# Altium schematic symbol library motherboard.SCHLIB: 90 symbols
Pins are listed as number, name and electrical type; pins without a type are passive.

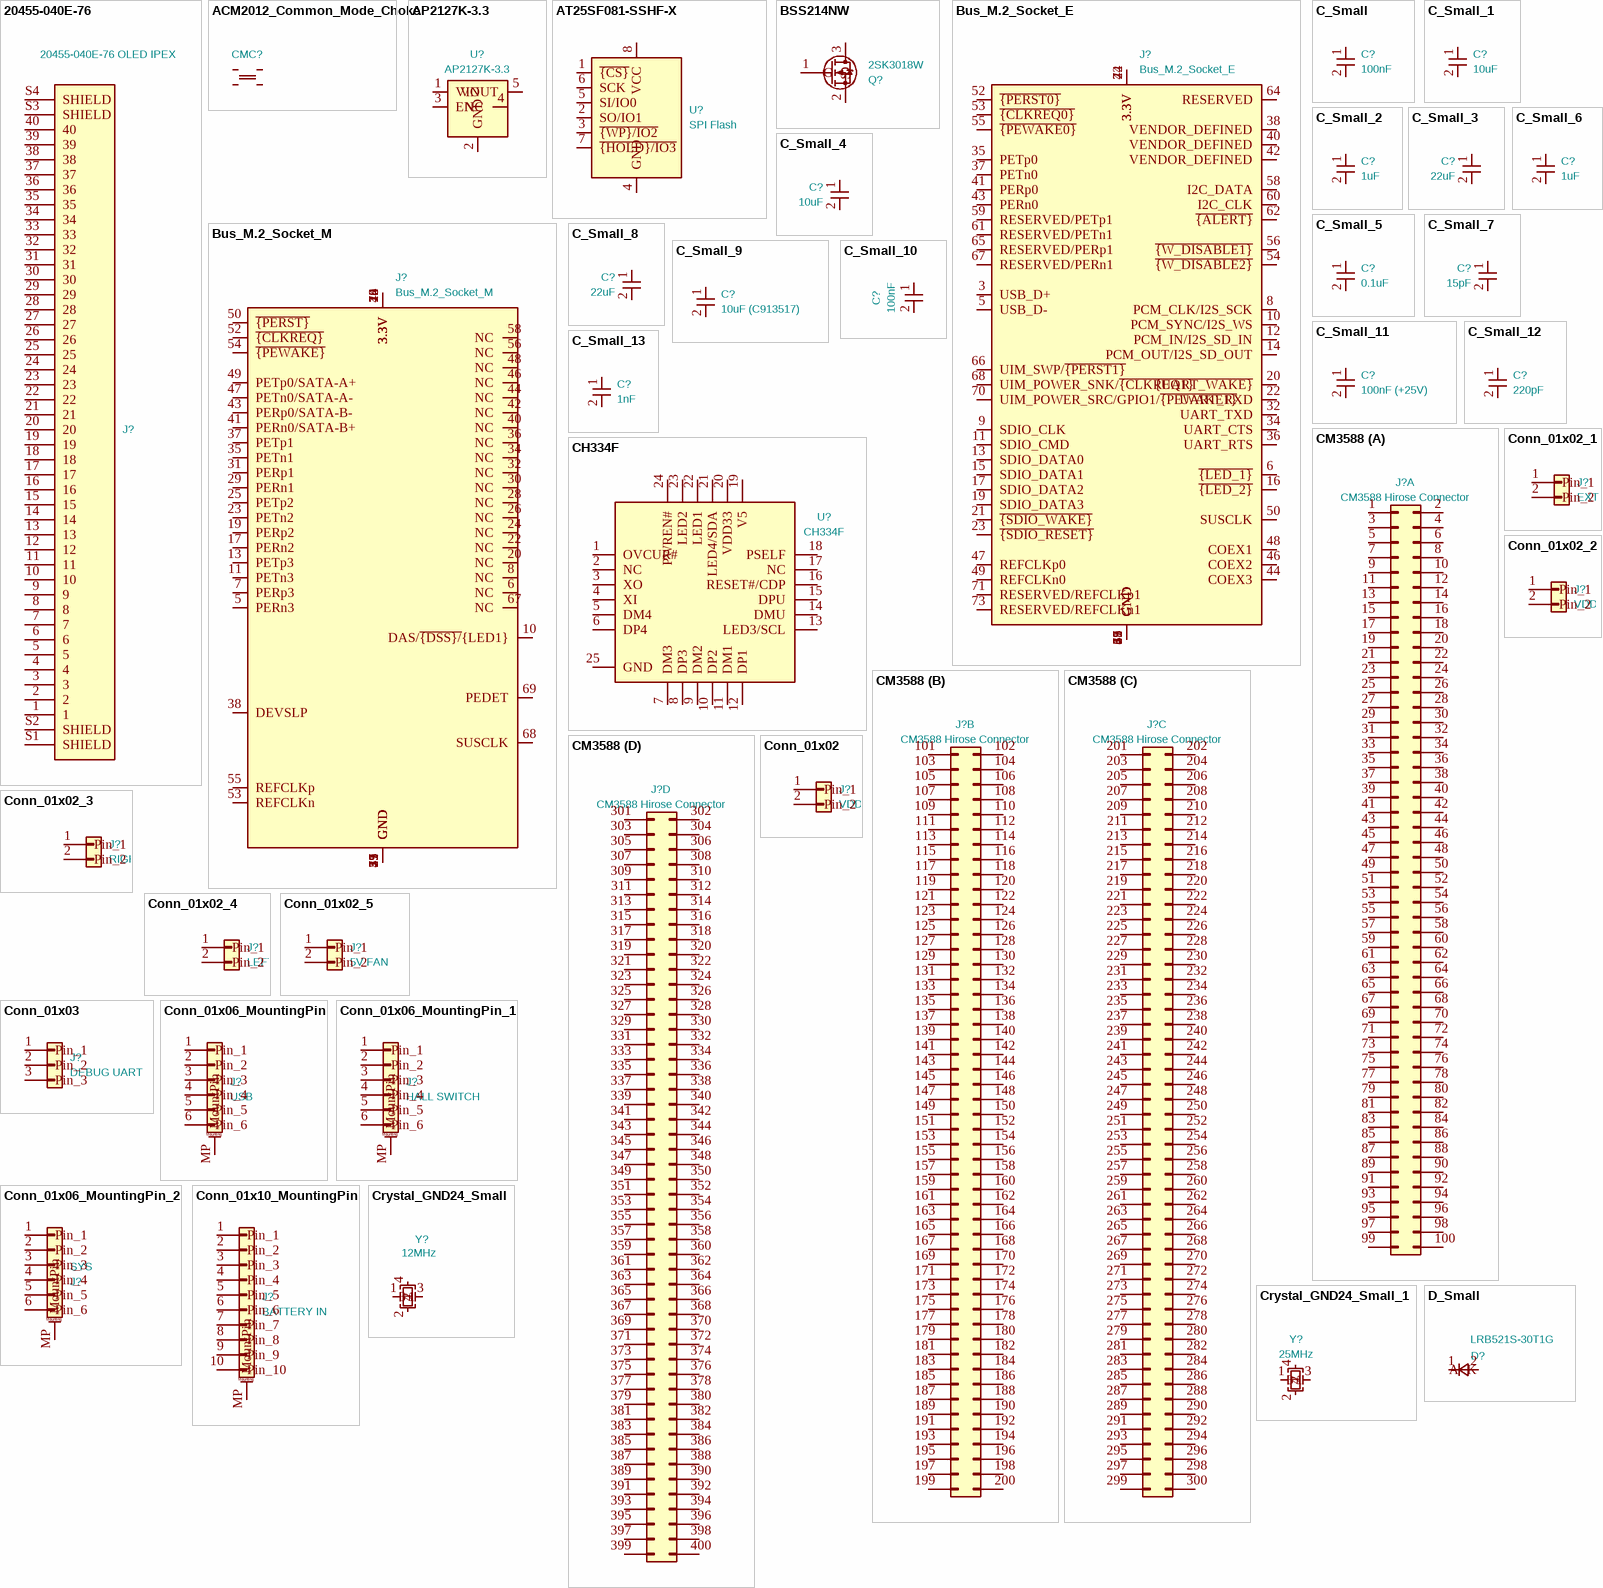
[diagram p0: symbols 20455-040E-76 to D_Small]

## 20455-040E-76
designator J?, comment 20455-040E-76 OLED IPEX
MF: I-PEX; Description_1: \n40 POS Right Angle SMD 0.5 mm pitch, Horizontal mating type Micro-coaxial and FPC connector with mechanical lock (VESA standard connector) CABLINE-VS Receptacle\n; Package: None; Price: None; Check_prices: https://www.snapeda.com/parts/20455-040E-76/I-PEX/view-part/?ref=eda; STANDARD: Manufacturer Recommendations; SnapEDA_Link: https://www.snapeda.com/parts/20455-040E-76/I-PEX/view-part/?ref=snap; MP: 20455-040E-76; Availability: In Stock; MANUFACTURER: I-PEX; Footprint: eDP_Connector:IPEX_20455-040E-76; Value: 20455-040E-76 OLED IPEX
footprint IPEX_20455-040E-76
pins: 1, 2, 3, 4, 5, 6, 7, 8, 9, 10, 11, 12, 13, 14, 15, 16, 17, 18, 19, 20, 21, 22, 23, 24, 25, 26, 27, 28, 29, 30, 31, 32, 33, 34, 35, 36, 37, 38, 39, 40, S1 SHIELD, S2 SHIELD, S3 SHIELD, S4 SHIELD

## ACM2012_Common_Mode_Choke
designator CMC?, comment ACM2012  (value not drawn)
Value: ACM2012; Footprint: ACM2012:FIL_ACM2012-900-2P-T001
footprint FIL_ACM2012-900-2P-T001
pins: 1, 2, 3, 4

## AP2127K-3.3
designator U?
Footprint: Package_TO_SOT_SMD:SOT-23-5; Value: AP2127K-3.3
footprint SOT-23-5
pins: 1 VIN, 2 GND, 3 EN, 4 NC, 5 VOUT

## AT25SF081-SSHF-X
designator U?, comment SPI Flash
Footprint: Package_SON:WSON-8-1EP_6x5mm_P1.27mm_EP3.4x4.3mm; Value: SPI Flash
footprint WSON-8-1EP_6x5mm_P1.27mm_EP3.4x4.3mm
pins: 1 ~{{CS}}, 2 SO/IO1, 3 ~{{WP}/IO2}, 4 GND, 5 SI/IO0, 6 SCK, 7 ~{{HOLD}/IO3}, 8 VCC

## BSS214NW
designator Q?, comment 2SK3018W
Footprint: Package_TO_SOT_SMD:SOT-323_SC-70; Value: 2SK3018W
footprint SOT-323_SC-70
pins: 1 G, 2 S, 3 D

## Bus_M.2_Socket_E
designator J?
Footprint: WIRELESS_E_KEY:CONN-SMD_APCI0147-P001A; Value: Bus_M.2_Socket_E
footprint CONN-SMD_APCI0147-P001A
pins: 1 GND, 2 3.3V, 3 USB_D+, 4 3.3V, 5 USB_D-, 6 ~{{LED_1}}, 7 GND, 8 PCM_CLK/I2S_SCK, 9 SDIO_CLK, 10 PCM_SYNC/I2S_WS, 11 SDIO_CMD, 12 PCM_IN/I2S_SD_IN, 13 SDIO_DATA0, 14 PCM_OUT/I2S_SD_OUT, 15 SDIO_DATA1, 16 ~{{LED_2}}, 17 SDIO_DATA2, 18 GND, 19 SDIO_DATA3, 20 ~{{UART_WAKE}}, 21 ~{{SDIO_WAKE}}, 22 UART_RXD, 23 ~{{SDIO_RESET}}, 32 UART_TXD, 33 GND, 34 UART_CTS, 35 PETp0, 36 UART_RTS, 37 PETn0, 38 VENDOR_DEFINED, 39 GND, 40 VENDOR_DEFINED, 41 PERp0, 42 VENDOR_DEFINED, 43 PERn0, 44 COEX3, 45 GND, 46 COEX2, 47 REFCLKp0, 48 COEX1, 49 REFCLKn0, 50 SUSCLK, 51 GND, 52 ~{{PERST0}}, 53 ~{{CLKREQ0}}, 54 ~{{W_DISABLE2}}, 55 ~{{PEWAKE0}}, 56 ~{{W_DISABLE1}}, 57 GND, 58 I2C_DATA, 59 RESERVED/PETp1, 60 I2C_CLK, 61 RESERVED/PETn1, 62 ~{{ALERT}}, 63 GND, 64 RESERVED, 65 RESERVED/PERp1, 66 UIM_SWP/~{{PERST1}}, 67 RESERVED/PERn1, 68 UIM_POWER_SNK/~{{CLKREQ1}}, 69 GND, 70 UIM_POWER_SRC/GPIO1/~{{PEWAKE1}}, 71 RESERVED/REFCLKp1, 72 3.3V, 73 RESERVED/REFCLKn1, 74 3.3V, 75 GND

## Bus_M.2_Socket_M
designator J?
Footprint: NVME_M_KEY:CONN-SMD_AS0BC21-S30BM-7H; Value: Bus_M.2_Socket_M
footprint CONN-SMD_AS0BC21-S30BM-7H
pins: 1 GND, 2 3.3V, 3 GND, 4 3.3V, 5 PERn3, 6 NC, 7 PERp3, 8 NC, 9 GND, 10 DAS/~{{DSS}/}{LED1}, 11 PETn3, 12 3.3V, 13 PETp3, 14 3.3V, 15 GND, 16 3.3V, 17 PERn2, 18 3.3V, 19 PERp2, 20 NC, 21 GND, 22 NC, 23 PETn2, 24 NC, 25 PETp2, 26 NC, 27 GND, 28 NC, 29 PERn1, 30 NC, 31 PERp1, 32 NC, 33 GND, 34 NC, 35 PETn1, 36 NC, 37 PETp1, 38 DEVSLP, 39 GND, 40 NC, 41 PERn0/SATA-B+, 42 NC, 43 PERp0/SATA-B-, 44 NC, 45 GND, 46 NC, 47 PETn0/SATA-A-, 48 NC, 49 PETp0/SATA-A+, 50 ~{{PERST}}, 51 GND, 52 ~{{CLKREQ}}, 53 REFCLKn, 54 ~{{PEWAKE}}, 55 REFCLKp, 56 NC, 57 GND, 58 NC, 67 NC, 68 SUSCLK, 69 PEDET, 70 3.3V, 71 GND, 72 3.3V, 73 GND, 74 3.3V, 75 GND

## C_Small
designator C?, comment 100nF
LCSC: C307331; Footprint: Capacitor_SMD:C_0402_1005Metric; Value: 100nF
footprint C_0402_1005Metric
pins: 1, 2

## C_Small_1
designator C?, comment 10uF
LCSC: C913517; Footprint: Capacitor_SMD:C_0603_1608Metric; Value: 10uF
footprint C_0603_1608Metric
pins: 1, 2

## C_Small_2
designator C?, comment 1uF
LCSC: C52923; Footprint: Capacitor_SMD:C_0402_1005Metric; Value: 1uF
footprint C_0402_1005Metric
pins: 1, 2

## C_Small_3
designator C?, comment 22uF
LCSC: C162690; Footprint: Capacitor_SMD:C_0603_1608Metric; Value: 22uF
footprint C_0603_1608Metric
pins: 1, 2

## C_Small_4
designator C?, comment 10uF
Footprint: Capacitor_SMD:C_0603_1608Metric; Value: 10uF
footprint C_0603_1608Metric
pins: 1, 2

## C_Small_5
designator C?, comment 0.1uF
Footprint: Capacitor_SMD:C_0402_1005Metric; Value: 0.1uF
footprint C_0402_1005Metric
pins: 1, 2

## C_Small_6
designator C?, comment 1uF
Footprint: Capacitor_SMD:C_0402_1005Metric; Value: 1uF
footprint C_0402_1005Metric
pins: 1, 2

## C_Small_7
designator C?, comment 15pF
Footprint: Capacitor_SMD:C_0402_1005Metric; Value: 15pF
footprint C_0402_1005Metric
pins: 1, 2

## C_Small_8
designator C?, comment 22uF
Footprint: Capacitor_SMD:C_0603_1608Metric; Value: 22uF
footprint C_0603_1608Metric
pins: 1, 2

## C_Small_9
designator C?, comment 10uF (C913517)
Value: 10uF (C913517); Footprint: Capacitor_SMD:C_0603_1608Metric
footprint C_0603_1608Metric
pins: 1, 2

## C_Small_10
designator C?, comment 100nF
Footprint: Capacitor_SMD:C_0402_1005Metric; Value: 100nF
footprint C_0402_1005Metric
pins: 1, 2

## C_Small_11
designator C?, comment 100nF (+25V)
Footprint: Capacitor_SMD:C_0402_1005Metric; Value: 100nF (+25V)
footprint C_0402_1005Metric
pins: 1, 2

## C_Small_12
designator C?, comment 220pF
Footprint: Capacitor_SMD:C_0402_1005Metric; Value: 220pF
footprint C_0402_1005Metric
pins: 1, 2

## C_Small_13
designator C?, comment 1nF
Value: 1nF; Footprint: Capacitor_SMD:C_0402_1005Metric
footprint C_0402_1005Metric
pins: 1, 2

## CH334F
designator U?
Footprint: Package_DFN_QFN:QFN-24-1EP_4x4mm_P0.5mm_EP2.6x2.6mm; Value: CH334F
footprint QFN-24-1EP_4x4mm_P0.5mm_EP2.6x2.6mm
pins: 1 OVCUR#, 2 NC, 3 XO, 4 XI, 5 DM4, 6 DP4, 7 DM3, 8 DP3, 9 DM2, 10 DP2, 11 DM1, 12 DP1, 13 LED3/SCL, 14 DMU, 15 DPU, 16 RESET#/CDP, 17 NC, 18 PSELF, 19 V5, 20 VDD33, 21 LED4/SDA, 22 LED1, 23 LED2, 24 PWREN#, 25 GND

## CM3588
designator J?, comment CM3588 Hirose Connector
LCSC: C597931; Footprint: Library:CM3588; Value: CM3588 Hirose Connector
footprint CM3588
part A pins: 1, 2, 3, 4, 5, 6, 7, 8, 9, 10, 11, 12, 13, 14, 15, 16, 17, 18, 19, 20, 21, 22, 23, 24, 25, 26, 27, 28, 29, 30, 31, 32, 33, 34, 35, 36, 37, 38, 39, 40, 41, 42, 43, 44, 45, 46, 47, 48, 49, 50, 51, 52, 53, 54, 55, 56, 57, 58, 59, 60, 61, 62, 63, 64, 65, 66, 67, 68, 69, 70, 71, 72, 73, 74, 75, 76, 77, 78, 79, 80, 81, 82, 83, 84, 85, 86, 87, 88, 89, 90, 91, 92, 93, 94, 95, 96, 97, 98, 99, 100
part B pins: 101, 102, 103, 104, 105, 106, 107, 108, 109, 110, 111, 112, 113, 114, 115, 116, 117, 118, 119, 120, 121, 122, 123, 124, 125, 126, 127, 128, 129, 130, 131, 132, 133, 134, 135, 136, 137, 138, 139, 140, 141, 142, 143, 144, 145, 146, 147, 148, 149, 150, 151, 152, 153, 154, 155, 156, 157, 158, 159, 160, 161, 162, 163, 164, 165, 166, 167, 168, 169, 170, 171, 172, 173, 174, 175, 176, 177, 178, 179, 180, 181, 182, 183, 184, 185, 186, 187, 188, 189, 190, 191, 192, 193, 194, 195, 196, 197, 198, 199, 200
part C pins: 201, 202, 203, 204, 205, 206, 207, 208, 209, 210, 211, 212, 213, 214, 215, 216, 217, 218, 219, 220, 221, 222, 223, 224, 225, 226, 227, 228, 229, 230, 231, 232, 233, 234, 235, 236, 237, 238, 239, 240, 241, 242, 243, 244, 245, 246, 247, 248, 249, 250, 251, 252, 253, 254, 255, 256, 257, 258, 259, 260, 261, 262, 263, 264, 265, 266, 267, 268, 269, 270, 271, 272, 273, 274, 275, 276, 277, 278, 279, 280, 281, 282, 283, 284, 285, 286, 287, 288, 289, 290, 291, 292, 293, 294, 295, 296, 297, 298, 299, 300
part D pins: 301, 302, 303, 304, 305, 306, 307, 308, 309, 310, 311, 312, 313, 314, 315, 316, 317, 318, 319, 320, 321, 322, 323, 324, 325, 326, 327, 328, 329, 330, 331, 332, 333, 334, 335, 336, 337, 338, 339, 340, 341, 342, 343, 344, 345, 346, 347, 348, 349, 350, 351, 352, 353, 354, 355, 356, 357, 358, 359, 360, 361, 362, 363, 364, 365, 366, 367, 368, 369, 370, 371, 372, 373, 374, 375, 376, 377, 378, 379, 380, 381, 382, 383, 384, 385, 386, 387, 388, 389, 390, 391, 392, 393, 394, 395, 396, 397, 398, 399, 400

## Conn_01x02
designator J?, comment VDD EXT 2
Footprint: Connector_PinHeader_2.54mm:PinHeader_1x02_P2.54mm_Vertical; Value: VDD EXT 2
footprint PinHeader_1x02_P2.54mm_Vertical
pins: 1 Pin_1, 2 Pin_2

## Conn_01x02_1
designator J?, comment EXT GPIO
Footprint: Connector_PinHeader_2.54mm:PinHeader_1x02_P2.54mm_Vertical; Value: EXT GPIO
footprint PinHeader_1x02_P2.54mm_Vertical
pins: 1 Pin_1, 2 Pin_2

## Conn_01x02_2
designator J?, comment VDD EXT
Footprint: Connector_PinHeader_2.54mm:PinHeader_1x02_P2.54mm_Vertical; Value: VDD EXT
footprint PinHeader_1x02_P2.54mm_Vertical
pins: 1 Pin_1, 2 Pin_2

## Conn_01x02_3
designator J?, comment RIGHT SPEAKERS
Footprint: Connector_PinHeader_2.54mm:PinHeader_1x02_P2.54mm_Vertical; Value: RIGHT SPEAKERS
footprint PinHeader_1x02_P2.54mm_Vertical
pins: 1 Pin_1, 2 Pin_2

## Conn_01x02_4
designator J?, comment LEFT SPEAKERS
Footprint: Connector_PinHeader_2.54mm:PinHeader_1x02_P2.54mm_Vertical; Value: LEFT SPEAKERS
footprint PinHeader_1x02_P2.54mm_Vertical
pins: 1 Pin_1, 2 Pin_2

## Conn_01x02_5
designator J?, comment 5V FAN
Footprint: Connector_PinHeader_2.54mm:PinHeader_1x02_P2.54mm_Vertical; Value: 5V FAN
footprint PinHeader_1x02_P2.54mm_Vertical
pins: 1 Pin_1, 2 Pin_2

## Conn_01x03
designator J?, comment DEBUG UART
Footprint: Connector_PinHeader_2.54mm:PinHeader_1x03_P2.54mm_Vertical; Value: DEBUG UART
footprint PinHeader_1x03_P2.54mm_Vertical
pins: 1 Pin_1, 2 Pin_2, 3 Pin_3

## Conn_01x06_MountingPin
designator J?, comment USB
Footprint: 6P_05mm_FPC:FPC-SMD_6P-P0.50_XUNPU_FPC-05F-6PH20; Value: USB
footprint FPC-SMD_6P-P0.50_XUNPU_FPC-05F-6PH20
pins: 1 Pin_1, 2 Pin_2, 3 Pin_3, 4 Pin_4, 5 Pin_5, 6 Pin_6, MP MountPin
text: Mounting

## Conn_01x06_MountingPin_1
designator J?, comment HALL SWITCH
Footprint: 6P_05mm_FPC:FPC-SMD_6P-P0.50_XUNPU_FPC-05F-6PH20; Value: HALL SWITCH
footprint FPC-SMD_6P-P0.50_XUNPU_FPC-05F-6PH20
pins: 1 Pin_1, 2 Pin_2, 3 Pin_3, 4 Pin_4, 5 Pin_5, 6 Pin_6, MP MountPin
text: Mounting

## Conn_01x06_MountingPin_2
designator J?, comment SYSTEM
Footprint: 6P_05mm_FPC:FPC-SMD_6P-P0.50_XUNPU_FPC-05F-6PH20; Value: SYSTEM
footprint FPC-SMD_6P-P0.50_XUNPU_FPC-05F-6PH20
pins: 1 Pin_1, 2 Pin_2, 3 Pin_3, 4 Pin_4, 5 Pin_5, 6 Pin_6, MP MountPin
text: Mounting

## Conn_01x10_MountingPin
designator J?, comment BATTERY IN
LCSC: C564042; Footprint: Connector_Molex:Molex_PicoBlade_53261-1071_1x10-1MP_P1.25mm_Horizontal; Value: BATTERY IN
footprint Molex_PicoBlade_53261-1071_1x10-1MP_P1.25mm_Horizontal
pins: 1 Pin_1, 2 Pin_2, 3 Pin_3, 4 Pin_4, 5 Pin_5, 6 Pin_6, 7 Pin_7, 8 Pin_8, 9 Pin_9, 10 Pin_10, MP MountPin
text: Mounting

## Crystal_GND24_Small
designator Y?, comment 12MHz
Footprint: Crystal:Crystal_SMD_3225-4Pin_3.2x2.5mm; Value: 12MHz
footprint Crystal_SMD_3225-4Pin_3.2x2.5mm
pins: 1, 2, 3, 4

## Crystal_GND24_Small_1
designator Y?, comment 25MHz
Footprint: Crystal:Crystal_SMD_3225-4Pin_3.2x2.5mm; Value: 25MHz
footprint Crystal_SMD_3225-4Pin_3.2x2.5mm
pins: 1, 2, 3, 4

## D_Small
designator D?, comment LRB521S-30T1G
Sim.Device: D; Sim.Pins: 1=K 2=A; Footprint: Diode_SMD:D_SOD-523; Value: LRB521S-30T1G
footprint D_SOD-523
pins: 1 K, 2 A

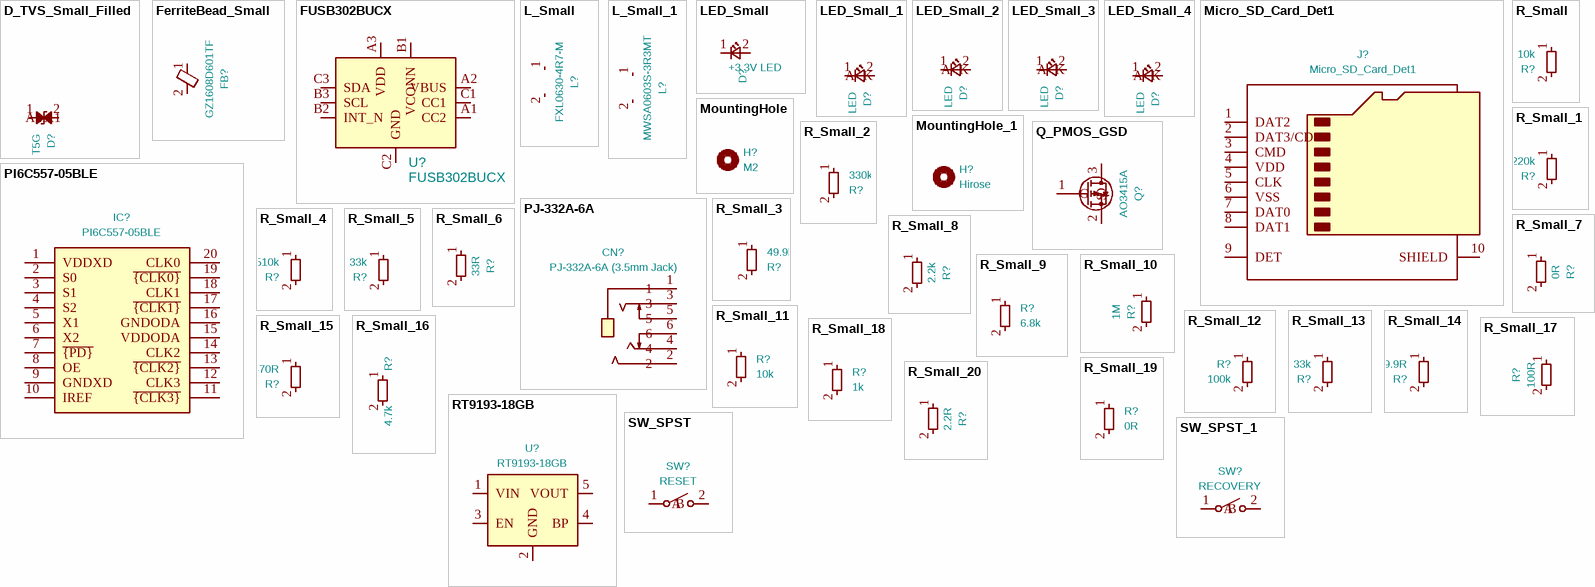
[diagram p1: symbols D_TVS_Small_Filled to SW_SPST_1]

## D_TVS_Small_Filled
designator D?, comment LESD8D5.0CB1T5G
Footprint: Diode_SMD:D_SOD-882; Value: LESD8D5.0CB1T5G
footprint D_SOD-882
pins: 1 A1, 2 A2

## FerriteBead_Small
designator FB?, comment GZ1608D601TF
Footprint: Inductor_SMD:L_0603_1608Metric; Value: GZ1608D601TF
footprint L_0603_1608Metric
pins: 1, 2

## FUSB302BUCX
designator U?
Footprint: WLCSP9_1P2X1P2_ONS; Value: FUSB302BUCX
footprint WLCSP9_1P2X1P2_ONS
pins: A1 CC2, A2 VBUS, A3 VDD, B1 VCONN, B2 INT_N, B3 SCL, C1 CC1, C2 GND, C3 SDA

## L_Small
designator L?, comment FXL0630-4R7-M
LCSC: C167220; Footprint: Inductor_SMD:L_Sunlord_MWSA0603S; Value: FXL0630-4R7-M
footprint L_Sunlord_MWSA0603S
pins: 1, 2

## L_Small_1
designator L?, comment MWSA0603S-3R3MT
LCSC: C408446; Footprint: Inductor_SMD:L_Sunlord_MWSA0603S; Value: MWSA0603S-3R3MT
footprint L_Sunlord_MWSA0603S
pins: 1, 2

## LED_Small
designator D?, comment +3.3V LED
Footprint: LED_SMD:LED_0603_1608Metric; Value: +3.3V LED
footprint LED_0603_1608Metric
pins: 1, 2

## LED_Small_1
designator D?, comment PCIE LED
Footprint: LED_SMD:LED_0603_1608Metric; Value: PCIE LED
footprint LED_0603_1608Metric
pins: 1 K, 2 A

## LED_Small_2
designator D?, comment +5V LED
Footprint: LED_SMD:LED_0603_1608Metric; Value: +5V LED
footprint LED_0603_1608Metric
pins: 1 K, 2 A

## LED_Small_3
designator D?, comment VDD LED
Footprint: LED_SMD:LED_0603_1608Metric; Value: VDD LED
footprint LED_0603_1608Metric
pins: 1 K, 2 A

## LED_Small_4
designator D?, comment PI6C LED
Footprint: LED_SMD:LED_0603_1608Metric; Value: PI6C LED
footprint LED_0603_1608Metric
pins: 1 K, 2 A

## Micro_SD_Card_Det1
designator J?
Footprint: microSD_Card:TF-SMD_TF-CARD-H1.8; Value: Micro_SD_Card_Det1
footprint TF-SMD_TF-CARD-H1.8
pins: 1 DAT2, 2 DAT3/CD, 3 CMD, 4 VDD, 5 CLK, 6 VSS, 7 DAT0, 8 DAT1, 9 DET, 10 SHIELD

## MountingHole
designator H?, comment M2
Footprint: MountingHole:MountingHole_2.2mm_M2_Pad_Via; Value: M2
footprint MountingHole_2.2mm_M2_Pad_Via

## MountingHole_1
designator H?, comment Hirose
Footprint: Library:Blank; Value: Hirose
footprint Blank

## PI6C557-05BLE
designator IC?
Manufacturer_Name: Diodes Incorporated; Height: 1.2; Mouser Part Number: 729-PI6C557-05BLE; Mouser Price/Stock: https://www.mouser.co.uk/ProductDetail/Diodes-Incorporated/PI6C557-05BLE?qs=DhjuHb%2FCp74BJNSc42C3zA%3D%3D; Manufacturer_Part_Number: PI6C557-05BLE; Footprint: SOP65P640X120-20N:SOP65P640X120-20N; Value: PI6C557-05BLE
footprint SOP65P640X120-20N
pins: 1 VDDXD, 2 S0, 3 S1, 4 S2, 5 X1, 6 X2, 7 ~{{PD}}, 8 OE, 9 GNDXD, 10 IREF, 11 ~{{CLK3}}, 12 CLK3, 13 ~{{CLK2}}, 14 CLK2, 15 VDDODA, 16 GNDODA, 17 ~{{CLK1}}, 18 CLK1, 19 ~{{CLK0}}, 20 CLK0

## PJ-332A-6A
designator CN?, comment PJ-332A-6A (3.5mm Jack)
LCSC Part: C2848643; Footprint: Headphone_Jack:AUDIO-SMD_PJ-332A-6A; Value: PJ-332A-6A (3.5mm Jack)
footprint AUDIO-SMD_PJ-332A-6A
pins: 1, 2, 3, 4, 5, 6

## Q_PMOS_GSD
designator Q?, comment AO3415A
Footprint: Package_TO_SOT_SMD:SOT-23; Value: AO3415A
footprint SOT-23
pins: 1 G, 2 S, 3 D

## R_Small
designator R?, comment 10k
LCSC: C25744; Footprint: Resistor_SMD:R_0402_1005Metric; Value: 10k
footprint R_0402_1005Metric
pins: 1, 2

## R_Small_1
designator R?, comment 220k
LCSC: C25767; Footprint: Resistor_SMD:R_0402_1005Metric; Value: 220k
footprint R_0402_1005Metric
pins: 1, 2

## R_Small_2
designator R?, comment 330k
LCSC: C25778; Footprint: Resistor_SMD:R_0402_1005Metric; Value: 330k
footprint R_0402_1005Metric
pins: 1, 2

## R_Small_3
designator R?, comment 49.9k
LCSC: C25897; Footprint: Resistor_SMD:R_0402_1005Metric; Value: 49.9k
footprint R_0402_1005Metric
pins: 1, 2

## R_Small_4
designator R?, comment 510k
LCSC: C11616; Value: 510k; Footprint: Resistor_SMD:R_0402_1005Metric
footprint R_0402_1005Metric
pins: 1, 2

## R_Small_5
designator R?, comment 33k
LCSC: C25779; Footprint: Resistor_SMD:R_0402_1005Metric; Value: 33k
footprint R_0402_1005Metric
pins: 1, 2

## R_Small_6
designator R?, comment 33R
Footprint: Resistor_SMD:R_0402_1005Metric; Value: 33R
footprint R_0402_1005Metric
pins: 1, 2

## R_Small_7
designator R?, comment 0R
Value: 0R; Footprint: Resistor_SMD:R_0402_1005Metric
footprint R_0402_1005Metric
pins: 1, 2

## R_Small_8
designator R?, comment 2.2k
Footprint: Resistor_SMD:R_0402_1005Metric; Value: 2.2k
footprint R_0402_1005Metric
pins: 1, 2

## R_Small_9
designator R?, comment 6.8k
Value: 6.8k; Footprint: Resistor_SMD:R_0402_1005Metric
footprint R_0402_1005Metric
pins: 1, 2

## R_Small_10
designator R?, comment 1M
Footprint: Resistor_SMD:R_0402_1005Metric; Value: 1M
footprint R_0402_1005Metric
pins: 1, 2

## R_Small_11
designator R?, comment 10k
Value: 10k; Footprint: Resistor_SMD:R_0402_1005Metric
footprint R_0402_1005Metric
pins: 1, 2

## R_Small_12
designator R?, comment 100k
Value: 100k; Footprint: Resistor_SMD:R_0402_1005Metric
footprint R_0402_1005Metric
pins: 1, 2

## R_Small_13
designator R?, comment 33k
LCSC: C25744; Value: 33k; Footprint: Resistor_SMD:R_0402_1005Metric
footprint R_0402_1005Metric
pins: 1, 2

## R_Small_14
designator R?, comment 49.9R
Footprint: Resistor_SMD:R_0402_1005Metric; Value: 49.9R
footprint R_0402_1005Metric
pins: 1, 2

## R_Small_15
designator R?, comment 470R
Footprint: Resistor_SMD:R_0402_1005Metric; Value: 470R
footprint R_0402_1005Metric
pins: 1, 2

## R_Small_16
designator R?, comment 4.7k
Footprint: Resistor_SMD:R_0402_1005Metric; Value: 4.7k
footprint R_0402_1005Metric
pins: 1, 2

## R_Small_17
designator R?, comment 100R
Value: 100R; Footprint: Resistor_SMD:R_0402_1005Metric
footprint R_0402_1005Metric
pins: 1, 2

## R_Small_18
designator R?, comment 1k
Footprint: Resistor_SMD:R_0402_1005Metric; Value: 1k
footprint R_0402_1005Metric
pins: 1, 2

## R_Small_19
designator R?, comment 0R
Value: 0R; Footprint: Jumper:SolderJumper-2_P1.3mm_Open_TrianglePad1.0x1.5mm
footprint SolderJumper-2_P1.3mm_Open_TrianglePad1.0x1.5mm
pins: 1, 2

## R_Small_20
designator R?, comment 2.2R
Value: 2.2R; Footprint: Resistor_SMD:R_0603_1608Metric
footprint R_0603_1608Metric
pins: 1, 2

## RT9193-18GB
designator U?
LCSC: C27416; Footprint: Package_TO_SOT_SMD:SOT-23-5; Value: RT9193-18GB
footprint SOT-23-5
pins: 1 VIN, 2 GND, 3 EN, 4 BP, 5 VOUT

## SW_SPST
designator SW?, comment RESET
Footprint: Button_Switch_SMD:SW_Push_1P1T_XKB_TS-1187A; Value: RESET
footprint SW_Push_1P1T_XKB_TS-1187A
pins: 1 A, 2 B

## SW_SPST_1
designator SW?, comment RECOVERY
Footprint: Button_Switch_SMD:SW_Push_1P1T_XKB_TS-1187A; Value: RECOVERY
footprint SW_Push_1P1T_XKB_TS-1187A
pins: 1 A, 2 B

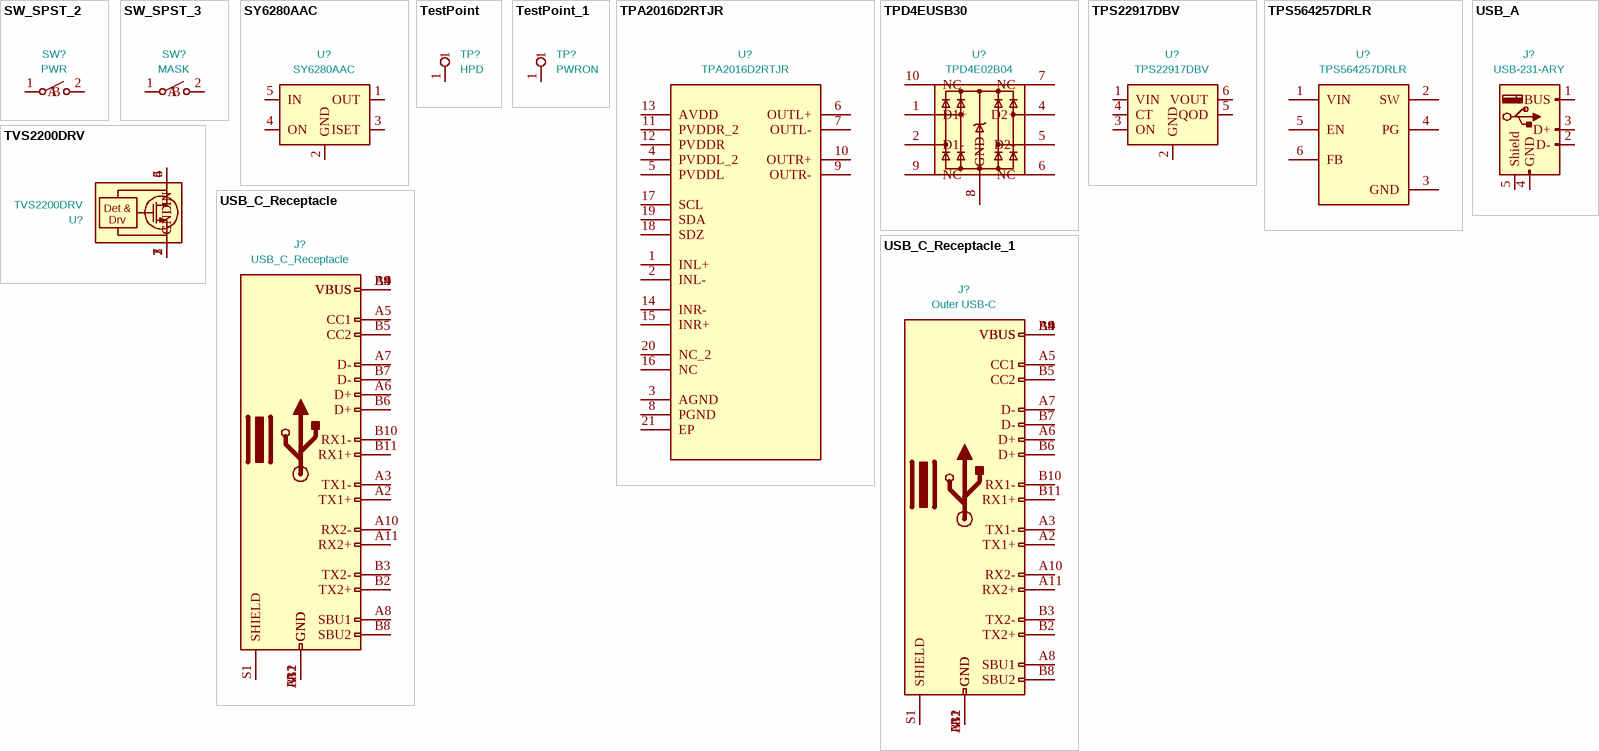
[diagram p2: symbols SW_SPST_2 to USB_C_Receptacle_1]

## SW_SPST_2
designator SW?, comment PWR
Footprint: Button_Switch_SMD:SW_Push_1P1T_XKB_TS-1187A; Value: PWR
footprint SW_Push_1P1T_XKB_TS-1187A
pins: 1 A, 2 B

## SW_SPST_3
designator SW?, comment MASK
Footprint: Button_Switch_SMD:SW_Push_1P1T_XKB_TS-1187A; Value: MASK
footprint SW_Push_1P1T_XKB_TS-1187A
pins: 1 A, 2 B

## SY6280AAC
designator U?
Value: SY6280AAC; Footprint: Package_TO_SOT_SMD:SOT-23-5
footprint SOT-23-5
pins: 1 OUT, 2 GND, 3 ISET, 4 ON, 5 IN

## TestPoint
designator TP?, comment HPD
Footprint: TestPoint:TestPoint_Pad_D1.5mm; Value: HPD
footprint TestPoint_Pad_D1.5mm
pins: 1

## TestPoint_1
designator TP?, comment PWRON
Footprint: TestPoint:TestPoint_THTPad_1.0x1.0mm_Drill0.5mm; Value: PWRON
footprint TestPoint_THTPad_1.0x1.0mm_Drill0.5mm
pins: 1

## TPA2016D2RTJR
designator U?
MF: Texas Instruments; Description_1: \n2.8-W, stereo, analog input Class-D audio amp with auto. gain control & dynamic range compression\n; PACKAGE: QFN-20; MPN: TPA2016D2RTJR; Price: None; Package: WQFN-20 Texas Instruments; OC_FARNELL: -; SnapEDA_Link: https://www.snapeda.com/parts/TPA2016D2RTJR/Texas+Instruments/view-part/?ref=snap; MP: TPA2016D2RTJR; SUPPLIER: Texas Instrument; OC_NEWARK: 50R8080; Availability: In Stock; Check_prices: https://www.snapeda.com/parts/TPA2016D2RTJR/Texas+Instruments/view-part/?ref=eda; Footprint: TPA2016D2RTJR:QFN50P400X400X80-21N; Value: TPA2016D2RTJR
footprint QFN50P400X400X80-21N
pins: 1 INL+, 2 INL-, 3 AGND, 4 PVDDL_2, 5 PVDDL, 6 OUTL+, 7 OUTL-, 8 PGND, 9 OUTR-, 10 OUTR+, 11 PVDDR_2, 12 PVDDR, 13 AVDD, 14 INR-, 15 INR+, 16 NC, 17 SCL, 18 SDZ, 19 SDA, 20 NC_2, 21 EP

## TPD4EUSB30
designator U?, comment TPD4E02B04
Footprint: Package_SON:USON-10_2.5x1.0mm_P0.5mm; Value: TPD4E02B04
footprint USON-10_2.5x1.0mm_P0.5mm
pins: 1 D1+, 2 D1-, 3 GND, 4 D2+, 5 D2-, 6 NC, 7 NC, 8 GND, 9 NC, 10 NC

## TPS22917DBV
designator U?
Footprint: Package_TO_SOT_SMD:SOT-23-6; Value: TPS22917DBV
footprint SOT-23-6
pins: 1 VIN, 2 GND, 3 ON, 4 CT, 5 QOD, 6 VOUT

## TPS564257DRLR
designator U?
MF: Texas Instruments; Description_1: \n3-V to 17-V input voltage, 4-A FCCM mode, synchronous buck converter\n; MAXIMUM_PACKAGE_HEIGHT: 0.60mm; Package: SOT-5X3-6 Texas Instruments; Price: None; Check_prices: https://www.snapeda.com/parts/TPS564257DRLR/Texas+Instruments/view-part/?ref=eda; STANDARD: IPC-7351B; PARTREV: A; SnapEDA_Link: https://www.snapeda.com/parts/TPS564257DRLR/Texas+Instruments/view-part/?ref=snap; MP: TPS564257DRLR; Purchase-URL: https://www.snapeda.com/api/url_track_click_mouser/?unipart_id=13767088&manufacturer=Texas Instruments&part_name=TPS564257DRLR&search_term=tps564257; Availability: In Stock; MANUFACTURER: Texas Instruments; LCSC: C19272233; Footprint: TPS564257:SOT50P160X60-6N; Value: TPS564257DRLR
footprint SOT50P160X60-6N
pins: 1 VIN, 2 SW, 3 GND, 4 PG, 5 EN, 6 FB

## TVS2200DRV
designator U?
Footprint: Package_SON:WSON-6-1EP_2x2mm_P0.65mm_EP1x1.6mm; Value: TVS2200DRV
footprint WSON-6-1EP_2x2mm_P0.65mm_EP1x1.6mm
pins: 1 GND, 2 GND, 3 GND, 4 IN, 5 IN, 6 IN, 7 GND
text: Det &; Drv

## USB_A
designator J?, comment USB-231-ARY
Footprint: USB_A:USB-A-TH_USB-231-ARY; Value: USB-231-ARY
footprint USB-A-TH_USB-231-ARY
pins: 1 VBUS, 2 D-, 3 D+, 4 GND, 5 Shield

## USB_C_Receptacle
designator J?
Footprint: USB-C:USB-C-SMD_TYPE-C-24P-QT; Value: USB_C_Receptacle
footprint USB-C-SMD_TYPE-C-24P-QT
pins: A1 GND, A2 TX1+, A3 TX1-, A4 VBUS, A5 CC1, A6 D+, A7 D-, A8 SBU1, A9 VBUS, A10 RX2-, A11 RX2+, A12 GND, B1 GND, B2 TX2+, B3 TX2-, B4 VBUS, B5 CC2, B6 D+, B7 D-, B8 SBU2, B9 VBUS, B10 RX1-, B11 RX1+, B12 GND, S1 SHIELD

## USB_C_Receptacle_1
designator J?, comment Outer USB-C
Footprint: USB-C:USB-C-SMD_TYPE-C-24P-QT; Value: Outer USB-C
footprint USB-C-SMD_TYPE-C-24P-QT
pins: A1 GND, A2 TX1+, A3 TX1-, A4 VBUS, A5 CC1, A6 D+, A7 D-, A8 SBU1, A9 VBUS, A10 RX2-, A11 RX2+, A12 GND, B1 GND, B2 TX2+, B3 TX2-, B4 VBUS, B5 CC2, B6 D+, B7 D-, B8 SBU2, B9 VBUS, B10 RX1-, B11 RX1+, B12 GND, S1 SHIELD